# EAGLE library part 74541-? (library ic-74)
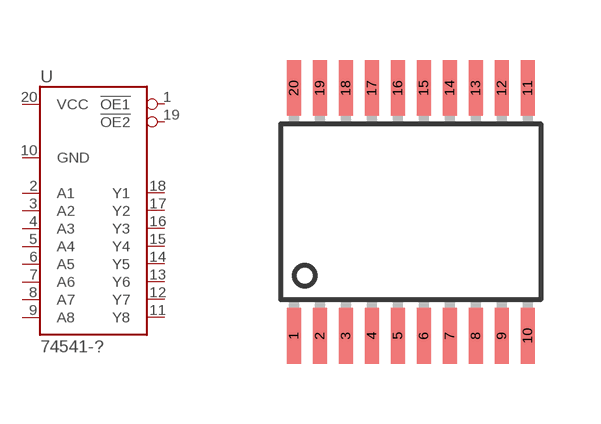
[diagram p7: symbol with the pads of TSSOP20; footprint TSSOP20]

Designator prefix U

## 74541-TSSOP  [TSSOP20]
1  !OE1
2  A1
3  A2
4  A3
5  A4
6  A5
7  A6
8  A7
9  A8
10  GND
11  Y8
12  Y7
13  Y6
14  Y5
15  Y4
16  Y3
17  Y2
18  Y1
19  !OE2
20  VCC

## Footprint TSSOP20 (pad centres in mm)
smd 0.35 x 1.4: 1 -2.925,-3.1; 2 -2.275,-3.1; 3 -1.625,-3.1; 4 -0.975,-3.1; 5 -0.325,-3.1; 6 0.325,-3.1; 7 0.975,-3.1; 8 1.625,-3.1; 9 2.275,-3.1; 10 2.925,-3.1; 11 2.925,3.1; 12 2.275,3.1; 13 1.625,3.1; 14 0.975,3.1; 15 0.325,3.1; 16 -0.325,3.1; 17 -0.975,3.1; 18 -1.625,3.1; 19 -2.275,3.1; 20 -2.925,3.1